# Altium integrated library NSC Logic Counter.IntLib: 133 symbols (part 3 of 3)
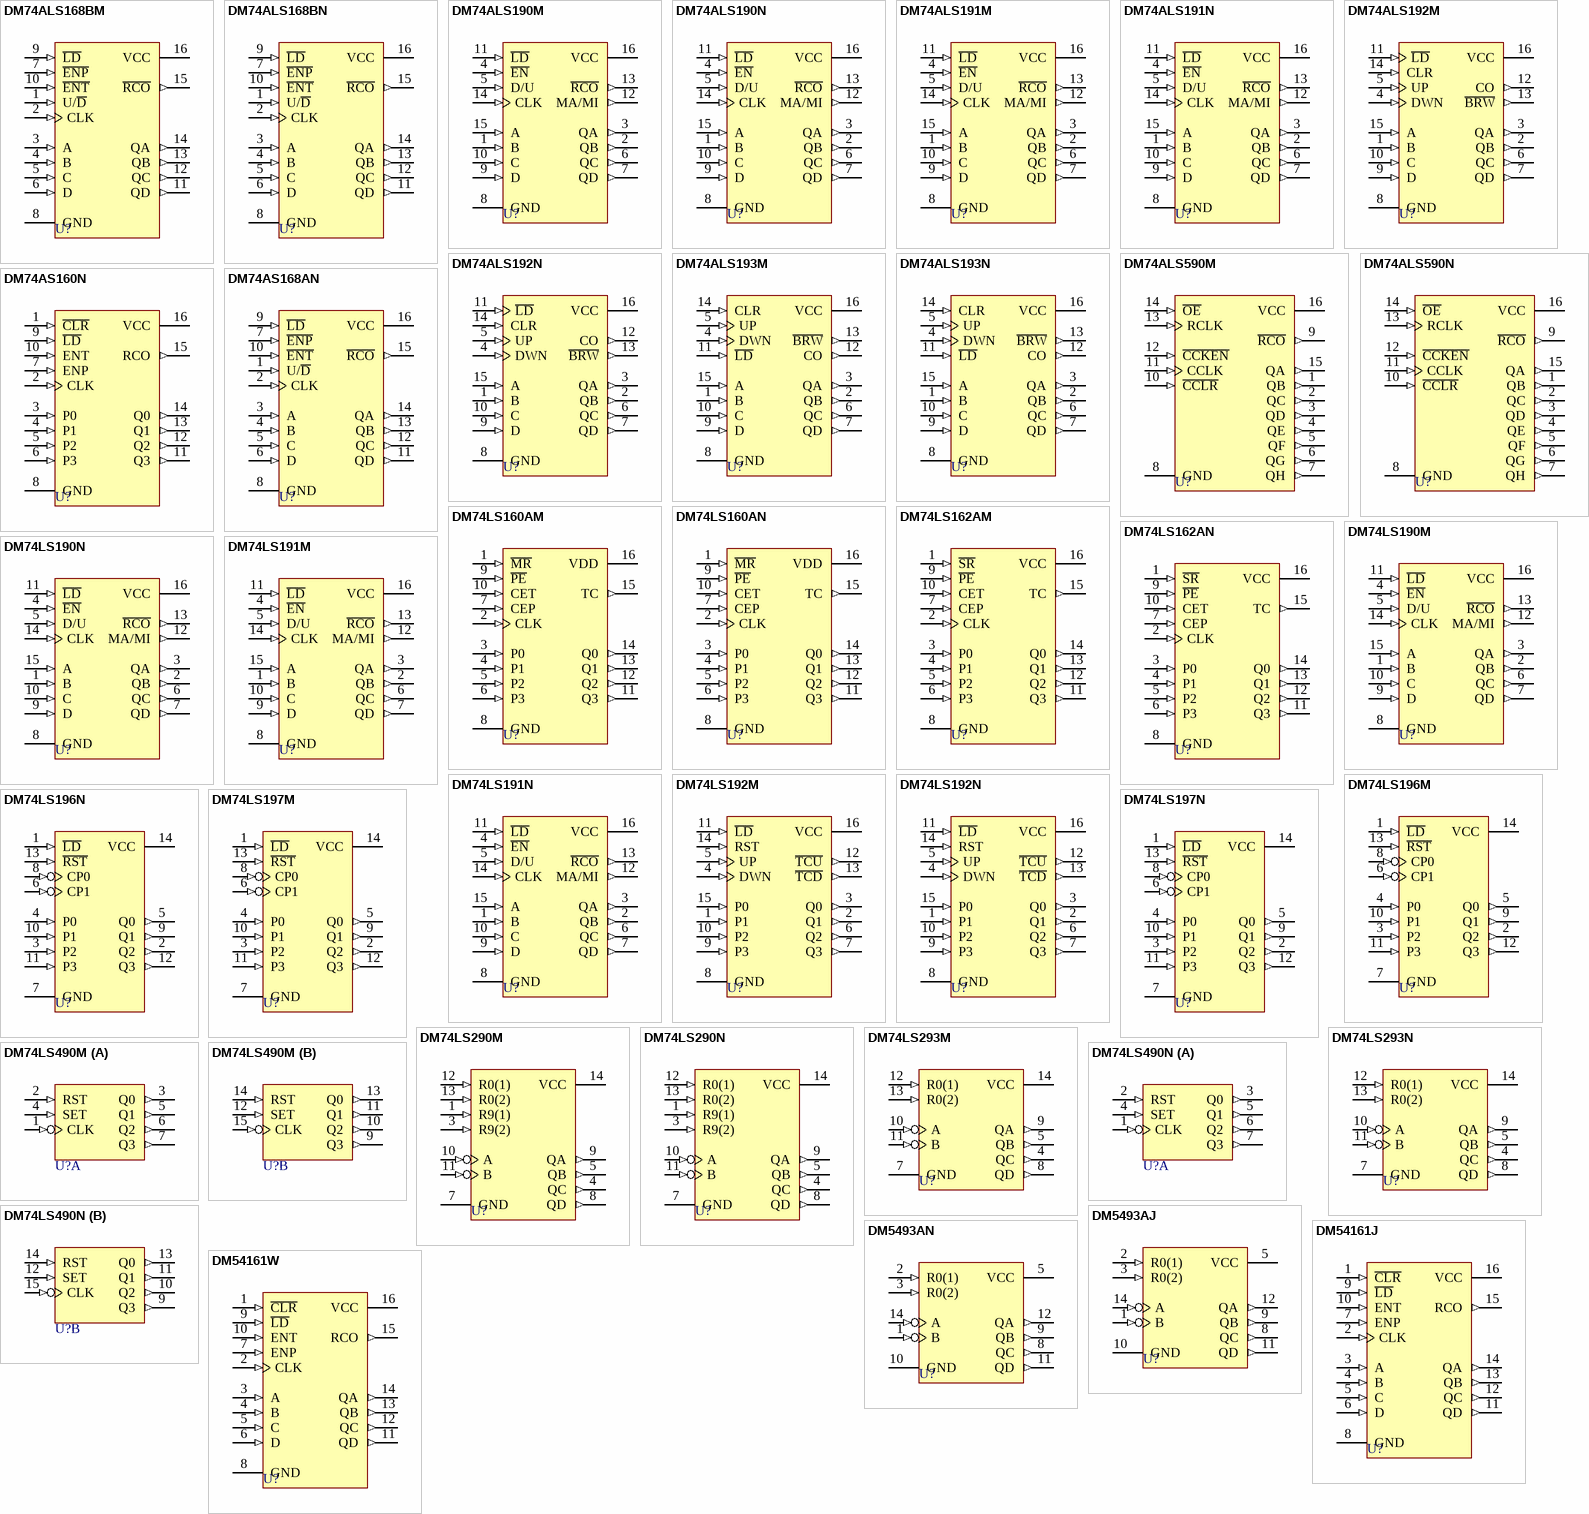
[diagram p5: symbols DM74ALS168BM to DM54161W]

## DM74LS293M
designator U?
4-Bit Binary Counter; Note: NC pins 1, 2, 3 and 6 are not drawn.; Published: 15-Apr-2002; LatestRevisionDate: 13-Apr-2006; LatestRevisionNote: IPC-7351 Footprint Added.; DatasheetVersion: Jun-1989; PackageVersion: 2000; PackageReference: M14A; Publisher: Altium Limited; PackageDescription: 14-Pin Small Outline Integrated Circuit 1.27 mm Pitch; Code_IPC: SOIC127P600-14; ComponentLink1Description: Manufacturer Link; ComponentLink1URL: http://www.national.com/
footprint M14A_N (SOIC, 14-Leads, Body 8.6x3.9mm, Pitch 1.27mm, IPC Medium Density)
footprint M14A_L (SOIC, 14-Leads, Body 8.6x3.9mm, Pitch 1.27mm, IPC High Density)
footprint M14A_M (SOIC, 14-Leads, Body 8.6x3.9mm, Pitch 1.27mm, IPC Low Density)
3D model M14A (14-Pin Small Outline Integrated Circuit 1.27 mm Pitch)
simulation model 74LS293 (SIMCODE)
signal-integrity model DM74LS293M
pins: 4 QC (out), 5 QB (out), 7 GND (power), 8 QD (out), 9 QA (out), 10 A (in), 11 B (in), 12 R0(1) (in), 13 R0(2) (in), 14 VCC (power)

## DM74LS293N
designator U?
4-Bit Binary Counter; Note: NC pins 1, 2, 3 and 6 are not drawn.; Published: 15-Apr-2002; LatestRevisionDate: 06-Jun-2005; LatestRevisionNote: Stylized 3D Model Added.; DatasheetVersion: Jun-1989; PackageVersion: 2000; PackageReference: N14A; Publisher: Altium Limited; PackageDescription: DIP; 14 Leads; Row Spacing 7.62 mm; Pitch 2.54 mm; ComponentLink1Description: Manufacturer Link; ComponentLink1URL: http://www.national.com/
footprint N14A (DIP; 14 Leads; Row Spacing 7.62 mm; Pitch 2.54 mm)
3D model N14A (DIP; 14 Leads; Row Spacing 7.62 mm; Pitch 2.54 mm)
simulation model 74LS293 (SIMCODE)
signal-integrity model DM74LS293N
pins: 4 QC (out), 5 QB (out), 7 GND (power), 8 QD (out), 9 QA (out), 10 A (in), 11 B (in), 12 R0(1) (in), 13 R0(2) (in), 14 VCC (power)

## DM74LS490M
designator U?
Dual Decade Counter; Published: 15-Apr-2002; LatestRevisionDate: 13-Apr-2006; LatestRevisionNote: IPC-7351 Footprint Added.; DatasheetVersion: Feb-1992; PackageVersion: 2000; PackageReference: M16A; Publisher: Altium Limited; PackageDescription: 16-Pin Small Outline Integrated Circuit 1.27 mm Pitch; Code_IPC: SOIC127P600-16; ComponentLink1Description: Manufacturer Link; ComponentLink1URL: http://www.national.com/
footprint M16A_N (SOIC, 16-Leads, Body 9.9x3.9mm, Pitch 1.27mm, IPC Medium Density)
footprint M16A_L (SOIC, 16-Leads, Body 9.9x3.9mm, Pitch 1.27mm, IPC High Density)
footprint M16A_M (SOIC, 16-Leads, Body 9.9x3.9mm, Pitch 1.27mm, IPC Low Density)
3D model M16A (16-Pin Small Outline Integrated Circuit 1.27 mm Pitch)
signal-integrity model DM74LS490M
pins on every part: 8 GND (power) hidden to GND, 16 VCC (power) hidden to VCC
part A pins: 1 CLK (in), 2 RST (in), 3 Q0 (out), 4 SET (in), 5 Q1 (out), 6 Q2 (out), 7 Q3 (out)
part B pins: 9 Q3 (out), 10 Q2 (out), 11 Q1 (out), 12 SET (in), 13 Q0 (out), 14 RST (in), 15 CLK (in)

## DM74LS490N
designator U?
Dual Decade Counter; Published: 15-Apr-2002; LatestRevisionDate: 06-Jun-2005; LatestRevisionNote: Stylized 3D Model Added.; DatasheetVersion: Feb-1992; PackageVersion: 2000; PackageReference: N16E; Publisher: Altium Limited; PackageDescription: DIP; 16 Leads; Row Spacing 7.62 mm; Pitch 2.54 mm; ComponentLink1Description: Manufacturer Link; ComponentLink1URL: http://www.national.com/
footprint N16E (DIP; 16 Leads; Row Spacing 7.62 mm; Pitch 2.54 mm)
3D model J16A (DIP; 16 Leads; Row Spacing 7.62 mm; Pitch 2.54 mm)
signal-integrity model DM74LS490N
pins on every part: 8 GND (power) hidden to GND, 16 VCC (power) hidden to VCC
part A pins: 1 CLK (in), 2 RST (in), 3 Q0 (out), 4 SET (in), 5 Q1 (out), 6 Q2 (out), 7 Q3 (out)
part B pins: 9 Q3 (out), 10 Q2 (out), 11 Q1 (out), 12 SET (in), 13 Q0 (out), 14 RST (in), 15 CLK (in)

## DM5493AJ
designator U?
Divide by 12 and Binary Counter; Note: NC pins 4, 6, 7 and 13 are not drawn.; Published: 15-Apr-2002; LatestRevisionDate: 06-Jun-2005; LatestRevisionNote: Stylized 3D Model Added.; DatasheetVersion: Jan-1984; PackageVersion: 2000; PackageReference: J14A; Publisher: Altium Limited; PackageDescription: DIP; 14 Leads; Row Spacing 7.62 mm; Pitch 2.54 mm; ComponentLink1Description: Manufacturer Link; ComponentLink1URL: http://www.national.com/
footprint J14A (DIP; 14 Leads; Row Spacing 7.62 mm; Pitch 2.54 mm)
3D model J14A (DIP; 14 Leads; Row Spacing 7.62 mm; Pitch 2.54 mm)
simulation model 74LS93 (SIMCODE)
signal-integrity model DM5493AJ
pins: 1 B (in), 2 R0(1) (in), 3 R0(2) (in), 5 VCC (power), 8 QC (out), 9 QB (out), 10 GND (power), 11 QD (out), 12 QA (out), 14 A (in)

## DM5493AN
designator U?
Divide by 12 and Binary Counter; Note: NC pins 4, 6, 7 and 13 are not drawn.; Published: 15-Apr-2002; LatestRevisionDate: 06-Jun-2005; LatestRevisionNote: Stylized 3D Model Added.; DatasheetVersion: Jan-1984; PackageVersion: 2000; PackageReference: N14A; Publisher: Altium Limited; PackageDescription: DIP; 14 Leads; Row Spacing 7.62 mm; Pitch 2.54 mm; ComponentLink1Description: Manufacturer Link; ComponentLink1URL: http://www.national.com/
footprint N14A (DIP; 14 Leads; Row Spacing 7.62 mm; Pitch 2.54 mm)
3D model N14A (DIP; 14 Leads; Row Spacing 7.62 mm; Pitch 2.54 mm)
simulation model 74LS93 (SIMCODE)
signal-integrity model DM5493AN
pins: 1 B (in), 2 R0(1) (in), 3 R0(2) (in), 5 VCC (power), 8 QC (out), 9 QB (out), 10 GND (power), 11 QD (out), 12 QA (out), 14 A (in)

## DM54161J
designator U?
Synchronous 4-Bit Counter; Published: 15-Apr-2002; LatestRevisionDate: 06-Jun-2005; LatestRevisionNote: Stylized 3D Model Added.; DatasheetVersion: Oct-1992; PackageVersion: 2000; PackageReference: J16A; Publisher: Altium Limited; PackageDescription: DIP; 16 Leads; Row Spacing 7.62 mm; Pitch 2.54 mm; ComponentLink1Description: Manufacturer Link; ComponentLink1URL: http://www.national.com/; ComponentLink2Description: Datasheet; ComponentLink2URL: http://www.national.com/ds.cgi/DM/DM54161.pdf; ComponentLink3Description: URL Link1; ComponentLink3URL: http://www.national.com/pf/DM/DM54161.html
footprint J16A (DIP; 16 Leads; Row Spacing 7.62 mm; Pitch 2.54 mm)
3D model J16A (DIP; 16 Leads; Row Spacing 7.62 mm; Pitch 2.54 mm)
signal-integrity model DM54161J
pins: 1 ~{CLR} (in), 2 CLK (in), 3 A (in), 4 B (in), 5 C (in), 6 D (in), 7 ENP (in), 8 GND (power), 9 ~{LD} (in), 10 ENT (in), 11 QD (out), 12 QC (out), 13 QB (out), 14 QA (out), 15 RCO (out), 16 VCC (power)

## DM54161W
designator U?
Synchronous 4-Bit Counter; Published: 15-Apr-2002; LatestRevisionDate: 06-Jun-2005; LatestRevisionNote: Stylized 3D Model Added.; DatasheetVersion: Oct-1992; PackageVersion: 2000; PackageReference: W16A; Publisher: Altium Limited; PackageDescription: DFP; 16 Leads; Body 9.9 x 7.6 mm (LxW max); Pitch 1.27 mm; ComponentLink1Description: Manufacturer Link; ComponentLink1URL: http://www.national.com/; ComponentLink2Description: Datasheet; ComponentLink2URL: http://www.national.com/ds.cgi/DM/DM54161.pdf; ComponentLink3Description: URL Link1; ComponentLink3URL: http://www.national.com/pf/DM/DM54161.html
footprint W16A (DFP; 16 Leads; Body 9.9 x 7.6 mm (LxW max); Pitch 1.27 mm)
3D model W16A (DFP; 16 Leads; Body 9.9 x 7.6 mm (LxW max); Pitch 1.27 mm)
signal-integrity model DM54161W
pins: 1 ~{CLR} (in), 2 CLK (in), 3 A (in), 4 B (in), 5 C (in), 6 D (in), 7 ENP (in), 8 GND (power), 9 ~{LD} (in), 10 ENT (in), 11 QD (out), 12 QC (out), 13 QB (out), 14 QA (out), 15 RCO (out), 16 VCC (power)

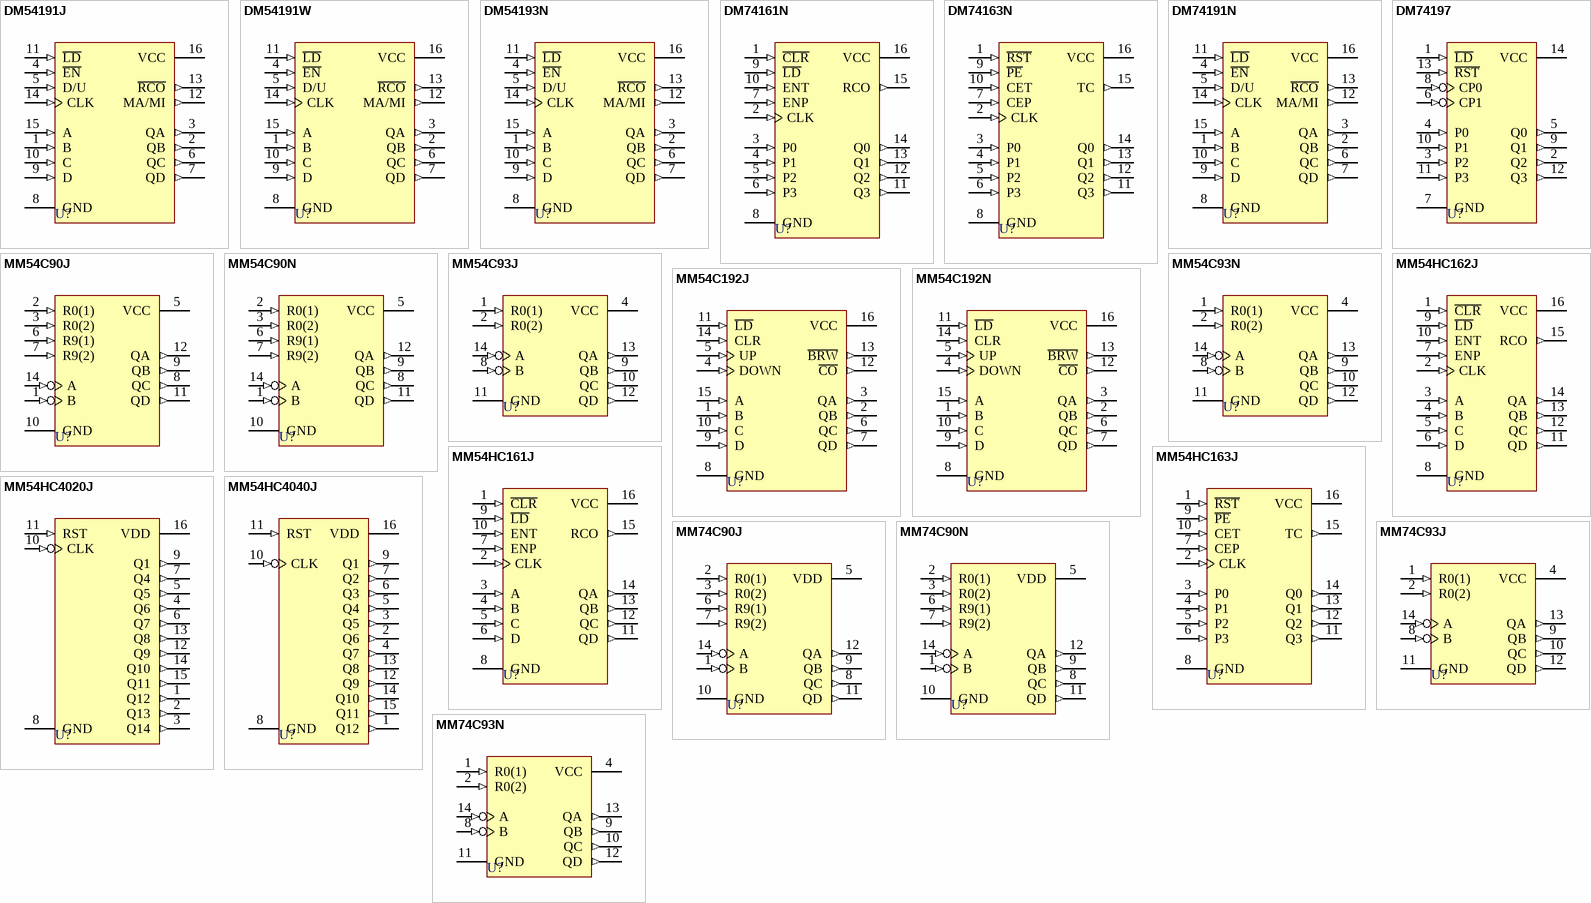
[diagram p3: symbols DM54191J to MM74C93N]

## DM54191J
designator U?
Synchronous Up/Down 4-Bit Binary Counter with Mode Control; Published: 15-Apr-2002; LatestRevisionDate: 06-Jun-2005; LatestRevisionNote: Stylized 3D Model Added.; DatasheetVersion: Jun-1989; PackageVersion: 2000; PackageReference: J16A; Publisher: Altium Limited; PackageDescription: DIP; 16 Leads; Row Spacing 7.62 mm; Pitch 2.54 mm; ComponentLink1Description: Manufacturer Link; ComponentLink1URL: http://www.national.com/; ComponentLink2Description: Datasheet; ComponentLink2URL: http://www.national.com/ds.cgi/54/54191.pdf; ComponentLink3Description: URL Link1; ComponentLink3URL: http://www.national.com/pf/DM/DM54191.html
footprint J16A (DIP; 16 Leads; Row Spacing 7.62 mm; Pitch 2.54 mm)
3D model J16A (DIP; 16 Leads; Row Spacing 7.62 mm; Pitch 2.54 mm)
simulation model 74LS190A (SIMCODE)
signal-integrity model DM54191J
pins: 1 B (in), 2 QB (out), 3 QA (out), 4 ~{EN} (in), 5 D/U (in), 6 QC (out), 7 QD (out), 8 GND (power), 9 D (in), 10 C (in), 11 ~{LD} (in), 12 MA/MI (out), 13 ~{RCO} (out), 14 CLK (in), 15 A (in), 16 VCC (power)

## DM54191W
designator U?
Synchronous Up/Down 4-Bit Binary Counter with Mode Control; Published: 15-Apr-2002; LatestRevisionDate: 06-Jun-2005; LatestRevisionNote: Stylized 3D Model Added.; DatasheetVersion: Jun-1989; PackageVersion: 2000; PackageReference: W16A; Publisher: Altium Limited; PackageDescription: DFP; 16 Leads; Body 9.9 x 7.6 mm (LxW max); Pitch 1.27 mm; ComponentLink1Description: Manufacturer Link; ComponentLink1URL: http://www.national.com/; ComponentLink2Description: Datasheet; ComponentLink2URL: http://www.national.com/ds.cgi/54/54191.pdf; ComponentLink3Description: URL Link1; ComponentLink3URL: http://www.national.com/pf/DM/DM54191.html
footprint W16A (DFP; 16 Leads; Body 9.9 x 7.6 mm (LxW max); Pitch 1.27 mm)
3D model W16A (DFP; 16 Leads; Body 9.9 x 7.6 mm (LxW max); Pitch 1.27 mm)
simulation model 74LS190A (SIMCODE)
signal-integrity model DM54191W
pins: 1 B (in), 2 QB (out), 3 QA (out), 4 ~{EN} (in), 5 D/U (in), 6 QC (out), 7 QD (out), 8 GND (power), 9 D (in), 10 C (in), 11 ~{LD} (in), 12 MA/MI (out), 13 ~{RCO} (out), 14 CLK (in), 15 A (in), 16 VCC (power)

## DM54193N
designator U?
Synchronous Up/Down Counter with Dual Clock; Published: 15-Apr-2002; LatestRevisionDate: 06-Jun-2005; LatestRevisionNote: Stylized 3D Model Added.; DatasheetVersion: Jan-1984; PackageVersion: 2000; PackageReference: N16E; Publisher: Altium Limited; PackageDescription: DIP; 16 Leads; Row Spacing 7.62 mm; Pitch 2.54 mm; ComponentLink1Description: Manufacturer Link; ComponentLink1URL: http://www.national.com/
footprint N16E (DIP; 16 Leads; Row Spacing 7.62 mm; Pitch 2.54 mm)
3D model J16A (DIP; 16 Leads; Row Spacing 7.62 mm; Pitch 2.54 mm)
signal-integrity model DM54193N
pins: 1 B (in), 2 QB (out), 3 QA (out), 4 ~{EN} (in), 5 D/U (in), 6 QC (out), 7 QD (out), 8 GND (power), 9 D (in), 10 C (in), 11 ~{LD} (in), 12 MA/MI (out), 13 ~{RCO} (out), 14 CLK (in), 15 A (in), 16 VCC (power)

## DM74161N
designator U?
Synchronous 4-Bit Counter; Published: 15-Apr-2002; LatestRevisionDate: 06-Jun-2005; LatestRevisionNote: Stylized 3D Model Added.; DatasheetVersion: Oct-1992; PackageVersion: 2000; PackageReference: N16E; Publisher: Altium Limited; PackageDescription: DIP; 16 Leads; Row Spacing 7.62 mm; Pitch 2.54 mm; ComponentLink1Description: Manufacturer Link; ComponentLink1URL: http://www.national.com/; ComponentLink2Description: Datasheet; ComponentLink2URL: http://www.national.com/ds.cgi/DM/DM54161.pdf; ComponentLink3Description: URL Link1; ComponentLink3URL: http://www.national.com/pf/DM/DM54161.html
footprint N16E (DIP; 16 Leads; Row Spacing 7.62 mm; Pitch 2.54 mm)
3D model J16A (DIP; 16 Leads; Row Spacing 7.62 mm; Pitch 2.54 mm)
signal-integrity model DM74161N
pins: 1 ~{CLR} (in), 2 CLK (in), 3 P0 (in), 4 P1 (in), 5 P2 (in), 6 P3 (in), 7 ENP (in), 8 GND (power), 9 ~{LD} (in), 10 ENT (in), 11 Q3 (out), 12 Q2 (out), 13 Q1 (out), 14 Q0 (out), 15 RCO (out), 16 VCC (power)

## DM74163N
designator U?
Synchronous 4-Bit Counter; Published: 15-Apr-2002; LatestRevisionDate: 06-Jun-2005; LatestRevisionNote: Stylized 3D Model Added.; DatasheetVersion: Oct-1992; PackageVersion: 2000; PackageReference: N16E; Publisher: Altium Limited; PackageDescription: DIP; 16 Leads; Row Spacing 7.62 mm; Pitch 2.54 mm; ComponentLink1Description: Manufacturer Link; ComponentLink1URL: http://www.national.com/
footprint N16E (DIP; 16 Leads; Row Spacing 7.62 mm; Pitch 2.54 mm)
3D model J16A (DIP; 16 Leads; Row Spacing 7.62 mm; Pitch 2.54 mm)
simulation model 74LS163A (SIMCODE)
signal-integrity model DM74163N
pins: 1 ~{RST} (in), 2 CLK (in), 3 P0 (in), 4 P1 (in), 5 P2 (in), 6 P3 (in), 7 CEP (in), 8 GND (power), 9 ~{PE} (in), 10 CET (in), 11 Q3 (out), 12 Q2 (out), 13 Q1 (out), 14 Q0 (out), 15 TC (out), 16 VCC (power)

## DM74191N
designator U?
Synchronous Up/Down 4-Bit Binary Counter with Mode Control; Published: 15-Apr-2002; LatestRevisionDate: 06-Jun-2005; LatestRevisionNote: Stylized 3D Model Added.; DatasheetVersion: Jun-1989; PackageVersion: 2000; PackageReference: N16E; Publisher: Altium Limited; PackageDescription: DIP; 16 Leads; Row Spacing 7.62 mm; Pitch 2.54 mm; ComponentLink1Description: Manufacturer Link; ComponentLink1URL: http://www.national.com/; ComponentLink2Description: Datasheet; ComponentLink2URL: http://www.national.com/ds.cgi/54/54191.pdf; ComponentLink3Description: URL Link1; ComponentLink3URL: http://www.national.com/pf/DM/DM54191.html
footprint N16E (DIP; 16 Leads; Row Spacing 7.62 mm; Pitch 2.54 mm)
3D model J16A (DIP; 16 Leads; Row Spacing 7.62 mm; Pitch 2.54 mm)
simulation model 74LS190A (SIMCODE)
signal-integrity model DM74191N
pins: 1 B (in), 2 QB (out), 3 QA (out), 4 ~{EN} (in), 5 D/U (in), 6 QC (out), 7 QD (out), 8 GND (power), 9 D (in), 10 C (in), 11 ~{LD} (in), 12 MA/MI (out), 13 ~{RCO} (out), 14 CLK (in), 15 A (in), 16 VCC (power)

## DM74197
designator U?
Presettable Binary Counter; Published: 15-Apr-2002; LatestRevisionDate: 06-Jun-2005; LatestRevisionNote: Stylized 3D Model Added.; DatasheetVersion: Jul-1989; PackageVersion: 2000; PackageReference: N14A; Publisher: Altium Limited; PackageDescription: DIP; 14 Leads; Row Spacing 7.62 mm; Pitch 2.54 mm; ComponentLink1Description: Manufacturer Link; ComponentLink1URL: http://www.national.com/
footprint N14A (DIP; 14 Leads; Row Spacing 7.62 mm; Pitch 2.54 mm)
3D model N14A (DIP; 14 Leads; Row Spacing 7.62 mm; Pitch 2.54 mm)
simulation model 74LS197 (SIMCODE)
signal-integrity model DM74197
pins: 1 ~{LD} (in), 2 Q2 (out), 3 P2 (in), 4 P0 (in), 5 Q0 (out), 6 CP1 (in), 7 GND (power), 8 CP0 (in), 9 Q1 (out), 10 P1 (in), 11 P3 (in), 12 Q3 (out), 13 ~{RST} (in), 14 VCC (power)

## MM54C90J
designator U?
4-Bit Decade Counter; Note: NC pins 4 and 13 are not drawn.; Published: 15-Apr-2002; LatestRevisionDate: 06-Jun-2005; LatestRevisionNote: Stylized 3D Model Added.; DatasheetVersion: Feb-1988; PackageVersion: 2000; PackageReference: J14A; Publisher: Altium Limited; PackageDescription: DIP; 14 Leads; Row Spacing 7.62 mm; Pitch 2.54 mm; ComponentLink1Description: Manufacturer Link; ComponentLink1URL: http://www.national.com/; ComponentLink2Description: Datasheet; ComponentLink2URL: http://www.national.com/ds.cgi/MM/MM54C90.pdf; ComponentLink3Description: URL Link1; ComponentLink3URL: http://www.national.com/pf/MM/MM54C93.html
footprint J14A (DIP; 14 Leads; Row Spacing 7.62 mm; Pitch 2.54 mm)
3D model J14A (DIP; 14 Leads; Row Spacing 7.62 mm; Pitch 2.54 mm)
simulation model 74LS90 (SIMCODE)
pins: 1 B (in), 2 R0(1) (in), 3 R0(2) (in), 5 VCC (power), 6 R9(1) (in), 7 R9(2) (in), 8 QC (out), 9 QB (out), 10 GND (power), 11 QD (out), 12 QA (out), 14 A (in)

## MM54C90N
designator U?
4-Bit Decade Counter; Note: NC pins 4 and 13 are not drawn.; Published: 15-Apr-2002; LatestRevisionDate: 06-Jun-2005; LatestRevisionNote: Stylized 3D Model Added.; DatasheetVersion: Feb-1988; PackageVersion: 2000; PackageReference: N14A; Publisher: Altium Limited; PackageDescription: DIP; 14 Leads; Row Spacing 7.62 mm; Pitch 2.54 mm; ComponentLink1Description: Manufacturer Link; ComponentLink1URL: http://www.national.com/; ComponentLink2Description: Datasheet; ComponentLink2URL: http://www.national.com/ds.cgi/MM/MM54C90.pdf; ComponentLink3Description: URL Link1; ComponentLink3URL: http://www.national.com/pf/MM/MM54C93.html
footprint N14A (DIP; 14 Leads; Row Spacing 7.62 mm; Pitch 2.54 mm)
3D model N14A (DIP; 14 Leads; Row Spacing 7.62 mm; Pitch 2.54 mm)
simulation model 74LS90 (SIMCODE)
pins: 1 B (in), 2 R0(1) (in), 3 R0(2) (in), 5 VCC (power), 6 R9(1) (in), 7 R9(2) (in), 8 QC (out), 9 QB (out), 10 GND (power), 11 QD (out), 12 QA (out), 14 A (in)

## MM54C93J
designator U?
4-Bit Binary Counter; Note: NC pins 3, 5, 6 and 7 are not drawn.; Published: 15-Apr-2002; LatestRevisionDate: 06-Jun-2005; LatestRevisionNote: Stylized 3D Model Added.; DatasheetVersion: Feb-1988; PackageVersion: 2000; PackageReference: J14A; Publisher: Altium Limited; PackageDescription: DIP; 14 Leads; Row Spacing 7.62 mm; Pitch 2.54 mm; ComponentLink1Description: Manufacturer Link; ComponentLink1URL: http://www.national.com/; ComponentLink2Description: Datasheet; ComponentLink2URL: http://www.national.com/ds.cgi/MM/MM54C90.pdf; ComponentLink3Description: URL Link1; ComponentLink3URL: http://www.national.com/pf/MM/MM54C93.html
footprint J14A (DIP; 14 Leads; Row Spacing 7.62 mm; Pitch 2.54 mm)
3D model J14A (DIP; 14 Leads; Row Spacing 7.62 mm; Pitch 2.54 mm)
simulation model 74LS93 (SIMCODE)
pins: 1 R0(1) (in), 2 R0(2) (in), 4 VCC (power), 8 B (in), 9 QB (out), 10 QC (out), 11 GND (power), 12 QD (out), 13 QA (out), 14 A (in)

## MM54C93N
designator U?
4-Bit Binary Counter; Note: NC pins 3, 5, 6 and 7 are not drawn.; Published: 15-Apr-2002; LatestRevisionDate: 06-Jun-2005; LatestRevisionNote: Stylized 3D Model Added.; DatasheetVersion: Feb-1988; PackageVersion: 2000; PackageReference: N14A; Publisher: Altium Limited; PackageDescription: DIP; 14 Leads; Row Spacing 7.62 mm; Pitch 2.54 mm; ComponentLink1Description: Manufacturer Link; ComponentLink1URL: http://www.national.com/; ComponentLink2Description: Datasheet; ComponentLink2URL: http://www.national.com/ds.cgi/MM/MM54C90.pdf; ComponentLink3Description: URL Link1; ComponentLink3URL: http://www.national.com/pf/MM/MM54C93.html
footprint N14A (DIP; 14 Leads; Row Spacing 7.62 mm; Pitch 2.54 mm)
3D model N14A (DIP; 14 Leads; Row Spacing 7.62 mm; Pitch 2.54 mm)
simulation model 74LS93 (SIMCODE)
pins: 1 R0(1) (in), 2 R0(2) (in), 4 VCC (power), 8 B (in), 9 QB (out), 10 QC (out), 11 GND (power), 12 QD (out), 13 QA (out), 14 A (in)

## MM54C192J
designator U?
Synchronous 4-Bit Up/Down Decade Counter; Published: 15-Apr-2002; LatestRevisionDate: 06-Jun-2005; LatestRevisionNote: Stylized 3D Model Added.; DatasheetVersion: Feb-1988; PackageVersion: 2000; PackageReference: J16A; Publisher: Altium Limited; PackageDescription: DIP; 16 Leads; Row Spacing 7.62 mm; Pitch 2.54 mm; ComponentLink1Description: Manufacturer Link; ComponentLink1URL: http://www.national.com/; ComponentLink2Description: Datasheet; ComponentLink2URL: http://www.national.com/ds.cgi/MM/MM54C192.pdf; ComponentLink3Description: URL Link1; ComponentLink3URL: http://www.national.com/pf/MM/MM54C192.html
footprint J16A (DIP; 16 Leads; Row Spacing 7.62 mm; Pitch 2.54 mm)
3D model J16A (DIP; 16 Leads; Row Spacing 7.62 mm; Pitch 2.54 mm)
simulation model 74LS192 (SIMCODE)
pins: 1 B (in), 2 QB (out), 3 QA (out), 4 DOWN (in), 5 UP (in), 6 QC (out), 7 QD (out), 8 GND (power), 9 D (in), 10 C (in), 11 ~{LD} (in), 12 ~{CO} (out), 13 ~{BRW} (out), 14 CLR (in), 15 A (in), 16 VCC (power)

## MM54C192N
designator U?
Synchronous 4-Bit Up/Down Decade Counter; Published: 15-Apr-2002; LatestRevisionDate: 06-Jun-2005; LatestRevisionNote: Stylized 3D Model Added.; DatasheetVersion: Feb-1988; PackageVersion: 2000; PackageReference: N16E; Publisher: Altium Limited; PackageDescription: DIP; 16 Leads; Row Spacing 7.62 mm; Pitch 2.54 mm; ComponentLink1Description: Manufacturer Link; ComponentLink1URL: http://www.national.com/; ComponentLink2Description: Datasheet; ComponentLink2URL: http://www.national.com/ds.cgi/MM/MM54C192.pdf; ComponentLink3Description: URL Link1; ComponentLink3URL: http://www.national.com/pf/MM/MM54C192.html
footprint N16E (DIP; 16 Leads; Row Spacing 7.62 mm; Pitch 2.54 mm)
3D model J16A (DIP; 16 Leads; Row Spacing 7.62 mm; Pitch 2.54 mm)
simulation model 74LS192 (SIMCODE)
pins: 1 B (in), 2 QB (out), 3 QA (out), 4 DOWN (in), 5 UP (in), 6 QC (out), 7 QD (out), 8 GND (power), 9 D (in), 10 C (in), 11 ~{LD} (in), 12 ~{CO} (out), 13 ~{BRW} (out), 14 CLR (in), 15 A (in), 16 VCC (power)

## MM54HC161J
designator U?
Binary Counter with Asynchronous Clear; Published: 15-Apr-2002; LatestRevisionDate: 06-Jun-2005; LatestRevisionNote: Stylized 3D Model Added.; DatasheetVersion: Jan-1992; PackageVersion: 2000; PackageReference: J16A; Publisher: Altium Limited; PackageDescription: DIP; 16 Leads; Row Spacing 7.62 mm; Pitch 2.54 mm; ComponentLink1Description: Manufacturer Link; ComponentLink1URL: http://www.national.com/
footprint J16A (DIP; 16 Leads; Row Spacing 7.62 mm; Pitch 2.54 mm)
3D model J16A (DIP; 16 Leads; Row Spacing 7.62 mm; Pitch 2.54 mm)
signal-integrity model MM54HC161J
pins: 1 ~{CLR} (in), 2 CLK (in), 3 A (in), 4 B (in), 5 C (in), 6 D (in), 7 ENP (in), 8 GND (power), 9 ~{LD} (in), 10 ENT (in), 11 QD (out), 12 QC (out), 13 QB (out), 14 QA (out), 15 RCO (out), 16 VCC (power)

## MM54HC162J
designator U?
Decade Counter with Asynchronous Clear; Published: 15-Apr-2002; LatestRevisionDate: 06-Jun-2005; LatestRevisionNote: Stylized 3D Model Added.; DatasheetVersion: Jan-1992; PackageVersion: 2000; PackageReference: J16A; Publisher: Altium Limited; PackageDescription: DIP; 16 Leads; Row Spacing 7.62 mm; Pitch 2.54 mm; ComponentLink1Description: Manufacturer Link; ComponentLink1URL: http://www.national.com/
footprint J16A (DIP; 16 Leads; Row Spacing 7.62 mm; Pitch 2.54 mm)
3D model J16A (DIP; 16 Leads; Row Spacing 7.62 mm; Pitch 2.54 mm)
signal-integrity model MM54HC162J
pins: 1 ~{CLR} (in), 2 CLK (in), 3 A (in), 4 B (in), 5 C (in), 6 D (in), 7 ENP (in), 8 GND (power), 9 ~{LD} (in), 10 ENT (in), 11 QD (out), 12 QC (out), 13 QB (out), 14 QA (out), 15 RCO (out), 16 VCC (power)

## MM54HC163J
designator U?
Binary Counter with Synchronous Clear; Published: 15-Apr-2002; LatestRevisionDate: 06-Jun-2005; LatestRevisionNote: Stylized 3D Model Added.; DatasheetVersion: Jan-1992; PackageVersion: 2000; PackageReference: J16A; Publisher: Altium Limited; PackageDescription: DIP; 16 Leads; Row Spacing 7.62 mm; Pitch 2.54 mm; ComponentLink1Description: Manufacturer Link; ComponentLink1URL: http://www.national.com/
footprint J16A (DIP; 16 Leads; Row Spacing 7.62 mm; Pitch 2.54 mm)
3D model J16A (DIP; 16 Leads; Row Spacing 7.62 mm; Pitch 2.54 mm)
signal-integrity model MM54HC163J
pins: 1 ~{RST} (in), 2 CLK (in), 3 P0 (in), 4 P1 (in), 5 P2 (in), 6 P3 (in), 7 CEP (in), 8 GND (power), 9 ~{PE} (in), 10 CET (in), 11 Q3 (out), 12 Q2 (out), 13 Q1 (out), 14 Q0 (out), 15 TC (out), 16 VCC (power)

## MM54HC4020J
designator U?
14-Stage Binary Counter; Published: 15-Apr-2002; LatestRevisionDate: 06-Jun-2005; LatestRevisionNote: Stylized 3D Model Added.; DatasheetVersion: Jan-1984; PackageVersion: 2000; PackageReference: J16A; Publisher: Altium Limited; PackageDescription: DIP; 16 Leads; Row Spacing 7.62 mm; Pitch 2.54 mm; ComponentLink1Description: Manufacturer Link; ComponentLink1URL: http://www.national.com/
footprint J16A (DIP; 16 Leads; Row Spacing 7.62 mm; Pitch 2.54 mm)
3D model J16A (DIP; 16 Leads; Row Spacing 7.62 mm; Pitch 2.54 mm)
simulation model 4020 (SIMCODE)
signal-integrity model MM54HC4020J
pins: 1 Q12 (out), 2 Q13 (out), 3 Q14 (out), 4 Q6 (out), 5 Q5 (out), 6 Q7 (out), 7 Q4 (out), 8 GND (power), 9 Q1 (out), 10 CLK (in), 11 RST (in), 12 Q9 (out), 13 Q8 (out), 14 Q10 (out), 15 Q11 (out), 16 VDD (power)

## MM54HC4040J
designator U?
12-Stage Binary Counter; Published: 15-Apr-2002; LatestRevisionDate: 06-Jun-2005; LatestRevisionNote: Stylized 3D Model Added.; DatasheetVersion: Jan-1984; PackageVersion: 2000; PackageReference: J16A; Publisher: Altium Limited; PackageDescription: DIP; 16 Leads; Row Spacing 7.62 mm; Pitch 2.54 mm; ComponentLink1Description: Manufacturer Link; ComponentLink1URL: http://www.national.com/
footprint J16A (DIP; 16 Leads; Row Spacing 7.62 mm; Pitch 2.54 mm)
3D model J16A (DIP; 16 Leads; Row Spacing 7.62 mm; Pitch 2.54 mm)
simulation model 4040 (SIMCODE)
signal-integrity model MM54HC4040J
pins: 1 Q12 (out), 2 Q6 (out), 3 Q5 (out), 4 Q7 (out), 5 Q4 (out), 6 Q3 (out), 7 Q2 (out), 8 GND (power), 9 Q1 (out), 10 CLK (in), 11 RST (in), 12 Q9 (out), 13 Q8 (out), 14 Q10 (out), 15 Q11 (out), 16 VDD (power)

## MM74C90J
designator U?
4-Bit Decade Counter; Note: NC pins 4 and 13 are not drawn.; Published: 15-Apr-2002; LatestRevisionDate: 06-Jun-2005; LatestRevisionNote: Stylized 3D Model Added.; DatasheetVersion: Feb-1988; PackageVersion: 2000; PackageReference: J14A; Publisher: Altium Limited; PackageDescription: DIP; 14 Leads; Row Spacing 7.62 mm; Pitch 2.54 mm; ComponentLink1Description: Manufacturer Link; ComponentLink1URL: http://www.national.com/; ComponentLink2Description: Datasheet; ComponentLink2URL: http://www.national.com/ds.cgi/MM/MM54C90.pdf; ComponentLink3Description: URL Link1; ComponentLink3URL: http://www.national.com/pf/MM/MM54C93.html
footprint J14A (DIP; 14 Leads; Row Spacing 7.62 mm; Pitch 2.54 mm)
3D model J14A (DIP; 14 Leads; Row Spacing 7.62 mm; Pitch 2.54 mm)
simulation model 74LS90 (SIMCODE)
pins: 1 B (in), 2 R0(1) (in), 3 R0(2) (in), 5 VDD (power), 6 R9(1) (in), 7 R9(2) (in), 8 QC (out), 9 QB (out), 10 GND (power), 11 QD (out), 12 QA (out), 14 A (in)

## MM74C90N
designator U?
4-Bit Decade Counter; Note: NC pins 4 and 13 are not drawn.; Published: 15-Apr-2002; LatestRevisionDate: 06-Jun-2005; LatestRevisionNote: Stylized 3D Model Added.; DatasheetVersion: Feb-1988; PackageVersion: 2000; PackageReference: N14A; Publisher: Altium Limited; PackageDescription: DIP; 14 Leads; Row Spacing 7.62 mm; Pitch 2.54 mm; ComponentLink1Description: Manufacturer Link; ComponentLink1URL: http://www.national.com/; ComponentLink2Description: Datasheet; ComponentLink2URL: http://www.national.com/ds.cgi/MM/MM54C90.pdf; ComponentLink3Description: URL Link1; ComponentLink3URL: http://www.national.com/pf/MM/MM54C93.html
footprint N14A (DIP; 14 Leads; Row Spacing 7.62 mm; Pitch 2.54 mm)
3D model N14A (DIP; 14 Leads; Row Spacing 7.62 mm; Pitch 2.54 mm)
simulation model 74LS90 (SIMCODE)
pins: 1 B (in), 2 R0(1) (in), 3 R0(2) (in), 5 VDD (power), 6 R9(1) (in), 7 R9(2) (in), 8 QC (out), 9 QB (out), 10 GND (power), 11 QD (out), 12 QA (out), 14 A (in)

## MM74C93J
designator U?
4-Bit Decade Counter; Note: NC pins 3, 5, 6 and 7 are not drawn.; Published: 15-Apr-2002; LatestRevisionDate: 06-Jun-2005; LatestRevisionNote: Stylized 3D Model Added.; DatasheetVersion: Feb-1988; PackageVersion: 2000; PackageReference: J14A; Publisher: Altium Limited; PackageDescription: DIP; 14 Leads; Row Spacing 7.62 mm; Pitch 2.54 mm; ComponentLink1Description: Manufacturer Link; ComponentLink1URL: http://www.national.com/; ComponentLink2Description: Datasheet; ComponentLink2URL: http://www.national.com/ds.cgi/MM/MM54C90.pdf; ComponentLink3Description: URL Link1; ComponentLink3URL: http://www.national.com/pf/MM/MM54C93.html
footprint J14A (DIP; 14 Leads; Row Spacing 7.62 mm; Pitch 2.54 mm)
3D model J14A (DIP; 14 Leads; Row Spacing 7.62 mm; Pitch 2.54 mm)
simulation model 74LS93 (SIMCODE)
pins: 1 R0(1) (in), 2 R0(2) (in), 4 VCC (power), 8 B (in), 9 QB (out), 10 QC (out), 11 GND (power), 12 QD (out), 13 QA (out), 14 A (in)

## MM74C93N
designator U?
4-Bit Decade Counter; Note: NC pins 3, 5, 6 and 7 are not drawn.; Published: 15-Apr-2002; LatestRevisionDate: 06-Jun-2005; LatestRevisionNote: Stylized 3D Model Added.; DatasheetVersion: Feb-1988; PackageVersion: 2000; PackageReference: N14A; Publisher: Altium Limited; PackageDescription: DIP; 14 Leads; Row Spacing 7.62 mm; Pitch 2.54 mm; ComponentLink1Description: Manufacturer Link; ComponentLink1URL: http://www.national.com/; ComponentLink2Description: Datasheet; ComponentLink2URL: http://www.national.com/ds.cgi/MM/MM54C90.pdf; ComponentLink3Description: URL Link1; ComponentLink3URL: http://www.national.com/pf/MM/MM54C93.html
footprint N14A (DIP; 14 Leads; Row Spacing 7.62 mm; Pitch 2.54 mm)
3D model N14A (DIP; 14 Leads; Row Spacing 7.62 mm; Pitch 2.54 mm)
simulation model 74LS93 (SIMCODE)
pins: 1 R0(1) (in), 2 R0(2) (in), 4 VCC (power), 8 B (in), 9 QB (out), 10 QC (out), 11 GND (power), 12 QD (out), 13 QA (out), 14 A (in)